# Altium footprint library ESC.PcbLib: 1 footprints
Each footprint in its own frame and in the unit in brackets; x right, y up, seen from the top. Pads: shape width x height; smd on the part's side, far side on the other; paste and mask are expansions set on the pad; w line width, h text height; cw(c..) or ccw(c..) is an arc to the next point about the centre after c.
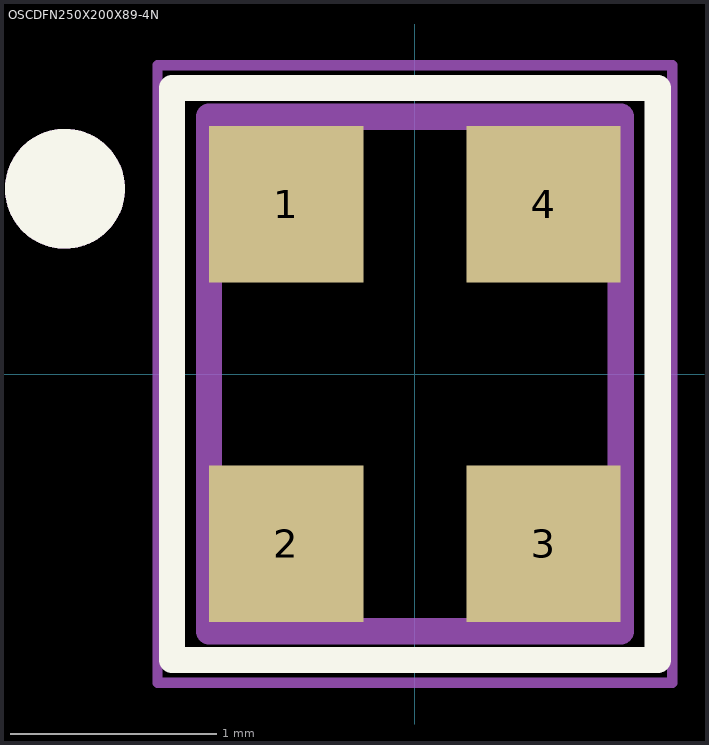
[diagram p0: the footprint, top view; thin cyan lines are the x and y axes]

## OSCDFN250X200X89-4N [mm]
pads (4):
  rect 0.75x0.76 smd: 1(-0.625,0.825) 2(-0.625,-0.825) 3(0.625,-0.825) 4(0.625,0.825)
Top Overlay:
  circle w0.3: c-1.7,0.9 r0.141
  lines w0.127: -1.18,-1.39 -1.18,1.39 1.18,1.39 1.18,-1.39 -1.18,-1.39
Mechanical 13:
  circle w0.3: c-1.7,0.9 r0.141
  lines w0.127: -1,-1.25 -1,1.25 1,1.25 1,-1.25 -1,-1.25
Mechanical 15:
  lines w0.05: -1.25,-1.5 -1.25,1.5 1.25,1.5 1.25,-1.5 -1.25,-1.5
3D body "esc.STEP": height 0.6, standoff 0, extent -1,-1.25 1,1.25